# EAGLE library part UNC5804 (library allegro)
BiMOS II UNIPOLAR STEPPER-MOTOR TRANSLATOR/DRIVER Source: 5804.pdf
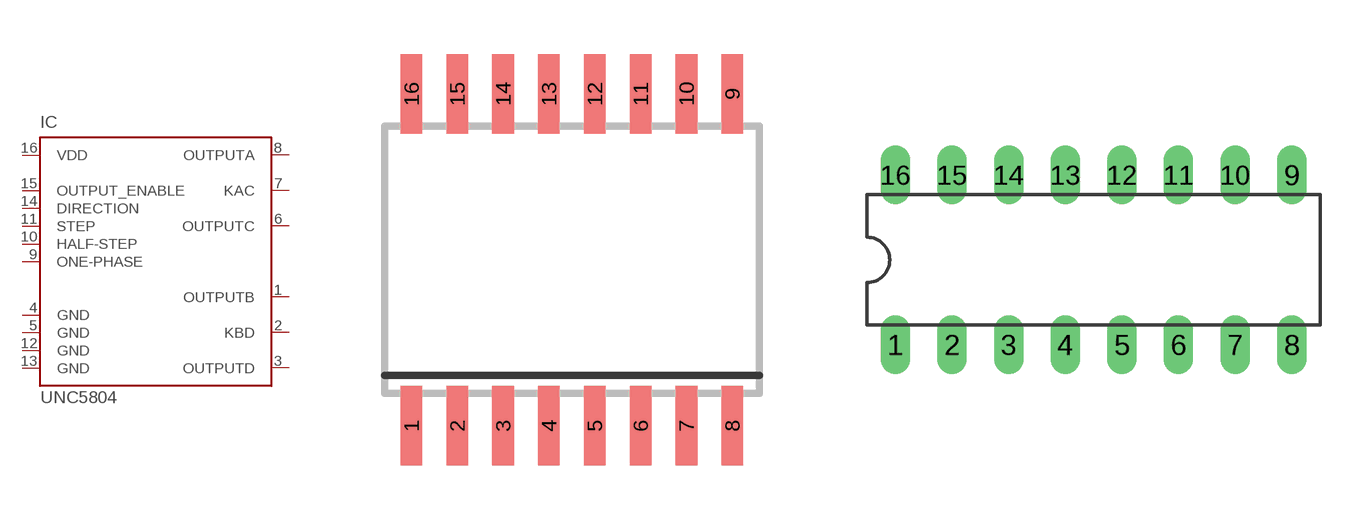
[diagram p2: symbol with the pads of SO-16DW; footprints SO-16DW, DIL16]

Designator prefix IC

## UNC5804LB (OC_FARNELL: unknown; OC_NEWARK: unknown)  [SO-16DW]
1  OUTPUTB  out
2  KBD  pas
3  OUTPUTD  out
4  GND  pwr
5  GND  pwr
6  OUTPUTC  out
7  KAC  pas
8  OUTPUTA  out
9  ONE-PHASE  in
10  HALF-STEP  in
11  STEP  in
12  GND  pwr
13  GND  pwr
14  DIRECTION  in
15  OUTPUT_ENABLE  in
16  VDD  pwr

## UNC5804B (OC_FARNELL: unknown; OC_NEWARK: unknown)  [DIL16]
Pads as for SO-16DW

## Footprint SO-16DW (pad centres in mm)
Small Outline Integrated Circuit wide
smd 0.6 x 2.2: 1 -4.445,-4.6; 2 -3.175,-4.6; 3 -1.905,-4.6; 4 -0.635,-4.6; 5 0.635,-4.6; 6 1.905,-4.6; 7 3.175,-4.6; 8 4.445,-4.6; 9 4.445,4.6; 10 3.175,4.6; 11 1.905,4.6; 12 0.635,4.6; 13 -0.635,4.6; 14 -1.905,4.6; 15 -3.175,4.6; 16 -4.445,4.6

## Footprint DIL16 (pad centres in mm)
Dual In Line Package
drill 0.813 long: 1 -8.89,-3.81; 2 -6.35,-3.81; 3 -3.81,-3.81; 4 -1.27,-3.81; 5 1.27,-3.81; 6 3.81,-3.81; 7 6.35,-3.81; 8 8.89,-3.81; 9 8.89,3.81; 10 6.35,3.81; 11 3.81,3.81; 12 1.27,3.81; 13 -1.27,3.81; 14 -3.81,3.81; 15 -6.35,3.81; 16 -8.89,3.81